# EAGLE library part MAXSONAR (library pixhawk2)
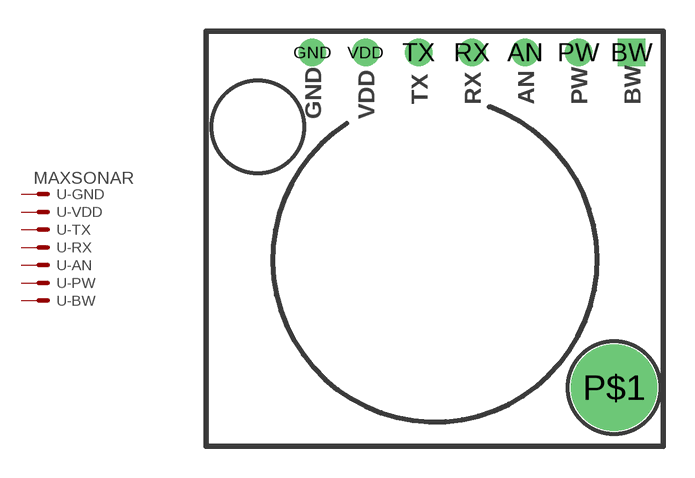
[diagram p50: symbol with the pads of MAXSONAR; footprint MAXSONAR]

Designator prefix -; gates -GND=MV -VDD=M -TX=M -RX=M -AN=M -PW=M -BW=M

## MAXSONAR  [MAXSONAR]
AN  -AN:S  pas
BW  -BW:S  pas
GND  -GND:S  pas
PW  -PW:S  pas
RX  -RX:S  pas
TX  -TX:S  pas
VDD  -VDD:S  pas

## Footprint MAXSONAR (pad centres in mm)
drill 0.8 round: AN -5.08,0; GND -15.24,0; PW -2.54,0; RX -7.62,0; TX -10.16,0; VDD -12.7,0
drill 0.8 square: BW 0,0
drill 3.1 round: P$1 -0.84,-16